# Altium schematic symbol library Passive.SchLib: 4 symbols
Pins are listed as number, name and electrical type; pins without a type are passive.

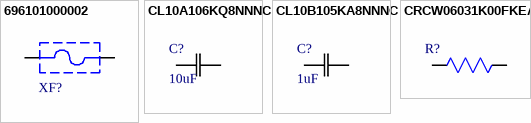
[diagram p0: symbols 696101000002 to CRCW06031K00FKEA]

## 696101000002
designator XF?  (value not drawn)
WR-FSH Fuseholder THT Blocks PCB Clip Cover; Manufacturer: Wurth Elektronik; Fuse Size: 5x20mm; ComponentLink1Description: Website Link; ComponentLink1URL: https://www.we-online.com/redexpert/article/696101000002?ad; ComponentLink2Description: Datasheet Link; ComponentLink2URL: https://www.we-online.com/redexpert/spec/696101000002?ad; Manufacturer Part Number: 696101000002; Category: Fuse Holder; Match Code: WR-FSH; Mount: THT; Operating Temperature Max: 120°C; Operating Temperature Min: -30°C; Packaging: Box
footprint 696108003002 (FUSEHOLDER BLOCKS - PCB - CLIP COVER - THT)
pins: 1, 2

## CL10A106KQ8NNNC
designator C?, comment 10uF
CAP 10uF Ceramic 0603 capacitor; Mfr_Name: Samsung
footprint 0603_CAP
footprint CAP 0603/1608 (Chip Capacitor, 2-Leads, Body 1.60x0.80mm, IPC Medium Density)
pins: 1, 2

## CL10B105KA8NNNC
designator C?, comment 1uF
CAP 1uF Ceramic 0603 capacitor; Mfr_Name: Samsung
footprint CAP 0603/1608 (Chip Capacitor, 2-Leads, Body 1.60x0.80mm, IPC Medium Density)
pins: 1, 2

## CRCW06031K00FKEA
designator R?  (value not drawn)
D11/CRCW0603 100 1K 1% ET1 e3; Manufacturer_Name: Vishay; Copyright: Copyright (C) 2025 Ultra Librarian. All rights reserved.; Manufacturer_Part_Number: CRCW06031K00FKEA; Datasheet: https://www.vishay.com/doc?20035
footprint CAP 0603/1608 (Chip Capacitor, 2-Leads, Body 1.60x0.80mm, IPC Medium Density)
pins: 1, 2